# EAGLE library part ADP2503 (library SophiEaglev9)
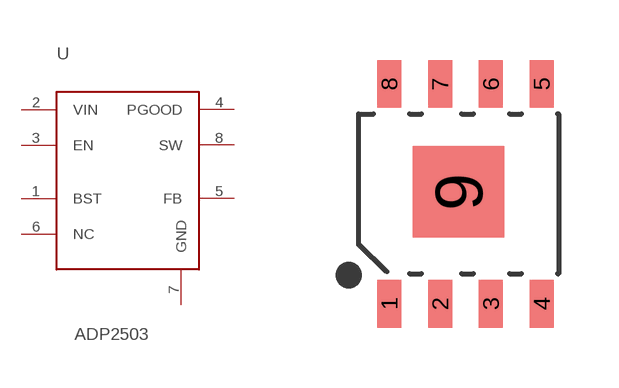
[diagram p14: symbol with the pads of SOIC8N; footprint SOIC8N]

Designator prefix -

## ADP2503  [SOIC8N]
1  BST
2  VIN
3  EN
4  PGOOD
5  FB
6  NC
7  GND
8  SW

## Footprint SOIC8N (pad centres in mm)
smd 0.6 x 1.2: 1 0.77,-0.8; 2 2.04,-0.8; 3 3.31,-0.8; 4 4.58,-0.8; 5 4.58,4.7; 6 3.31,4.7; 7 2.04,4.7; 8 0.77,4.7
smd 2.29 x 2.29: 9 2.5,2